# EAGLE library part MKE02_44PIN (library jason_eagle6)
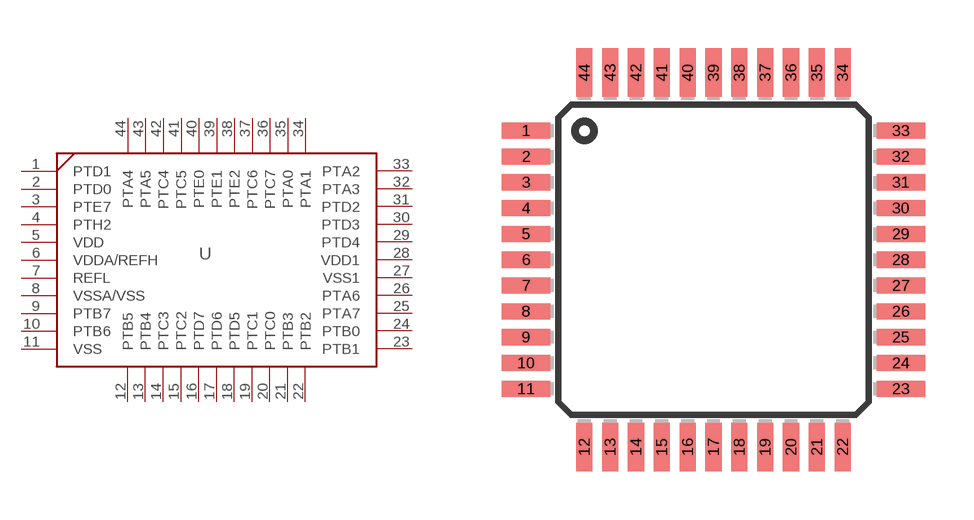
[diagram p22: symbol with the pads of TQFP44; footprint TQFP44]

Designator prefix -

## MKE02_44PIN  [TQFP44]
1  PTD1
2  PTD0
3  PTE7
4  PTH2
5  VDD  pwr
6  VDDA/REFH
7  REFL
8  VSSA/VSS  pwr
9  PTB7
10  PTB6
11  VSS  pwr
12  PTB5
13  PTB4
14  PTC3
15  PTC2
16  PTD7
17  PTD6
18  PTD5
19  PTC1
20  PTC0
21  PTB3
22  PTB2
23  PTB1
24  PTB0
25  PTA7
26  PTA6
27  VSS1  pwr
28  VDD1  pwr
29  PTD4
30  PTD3
31  PTD2
32  PTA3
33  PTA2
34  PTA1
35  PTA0
36  PTC7
37  PTC6
38  PTE2
39  PTE1
40  PTE0
41  PTC5
42  PTC4
43  PTA5
44  PTA4

## Footprint TQFP44 (pad centres in mm)
44-lead Thin Quad Flat Package
smd 1.5 x 0.5: 1 -5.8,4; 2 -5.8,3.2; 3 -5.8,2.4; 4 -5.8,1.6; 5 -5.8,0.8; 6 -5.8,0; 7 -5.8,-0.8; 8 -5.8,-1.6; 9 -5.8,-2.4; 10 -5.8,-3.2; 11 -5.8,-4; 23 5.8,-4; 24 5.8,-3.2; 25 5.8,-2.4; 26 5.8,-1.6; 27 5.8,-0.8; 28 5.8,0; 29 5.8,0.8; 30 5.8,1.6; 31 5.8,2.4; 32 5.8,3.2; 33 5.8,4
smd 0.5 x 1.5: 12 -4,-5.8; 13 -3.2,-5.8; 14 -2.4,-5.8; 15 -1.6,-5.8; 16 -0.8,-5.8; 17 0,-5.8; 18 0.8,-5.8; 19 1.6,-5.8; 20 2.4,-5.8; 21 3.2,-5.8; 22 4,-5.8; 34 4,5.8; 35 3.2,5.8; 36 2.4,5.8; 37 1.6,5.8; 38 0.8,5.8; 39 0,5.8; 40 -0.8,5.8; 41 -1.6,5.8; 42 -2.4,5.8; 43 -3.2,5.8; 44 -4,5.8